# EAGLE library part LPC1850_BGA256 (library microbuilder)
LPC1850/LPC4350 - LBGA256 Warning: This footprint was designed for a specific application, and numerous choices have been made concering the PINMUX to make certain peripherals available at the expense of others. These pin choices may not be appropriate in your own situation (for example, only one set of selection pins is broken out for the EMC rather than all four, although some pins on GPIO6 can be sacrificed to enable another memory device on the EMC using CS2).
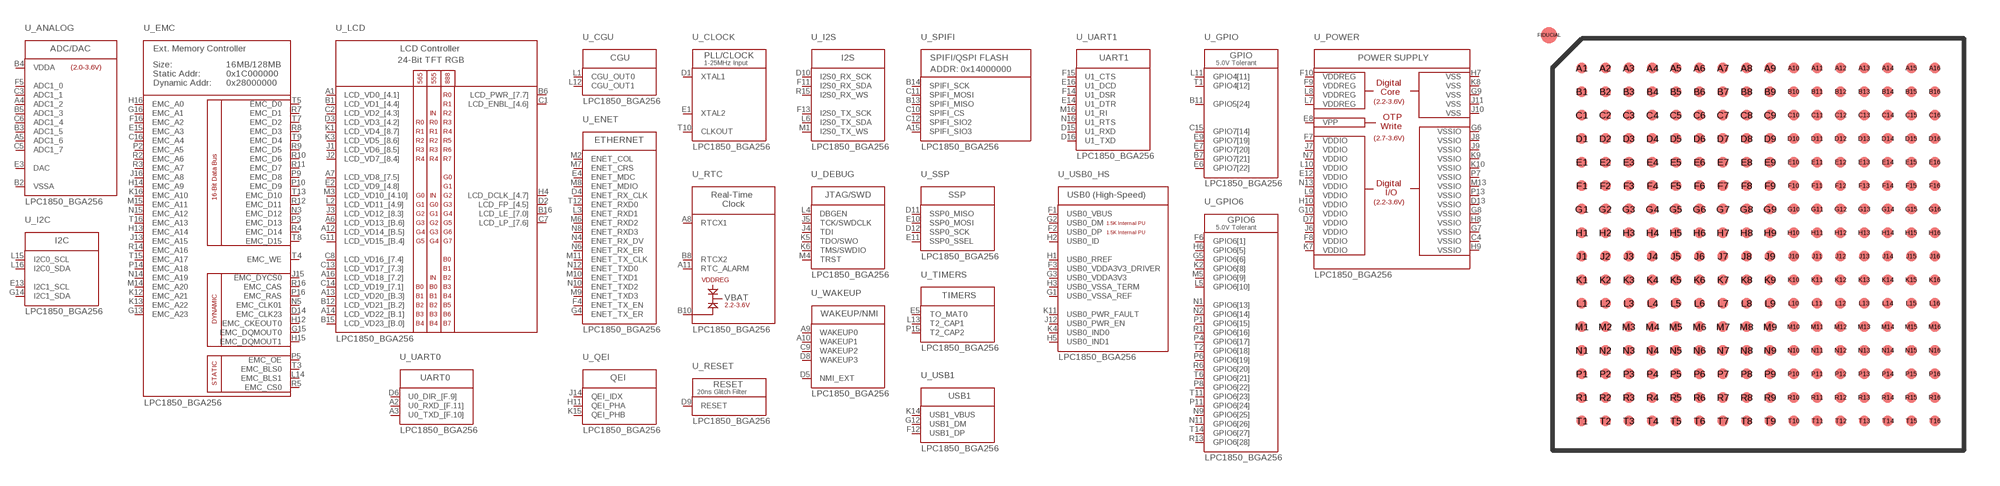
[diagram p147: symbol with the pads of LBGA256_1.0MM; footprint LBGA256_1.0MM]

Designator prefix U; gates _ANALOG=LPC1850_ADC _EMC=LPC1850_EMC _LCD=LPC1850_LCD _RTC=LPC1850_RTC _CGU=LPC1850_CGU _ENET=LPC1850_ETHERNET _CLOCK=LPC1850_CLOCK _I2C=LPC1850_I2C _I2S=LPC1850_I2S _DEBUG=LPC1850_JTAG _WAKEUP=LPC1850_NMI_WAKEUP _QEI=LPC1850_QEI _SPIFI=LPC1850_SPIFI _SSP=LPC1850_SSP _TIMERS=LPC1850_TIMERS _UART0=LPC1850_UART0 _UART1=LPC1850_UART1 _USB0_HS=LPC1850_USB0 _USB1=LPC1850_USB1 _GPIO=LPC1850_GPIO _GPIO6=LPC1850_GPIO6 _POWER=LPC1850_POWER _RESET=LPC1850_RESET

## LPC1850_BGA256  [LBGA256_1.0MM]
A1  _LCD:LCD_VD0_[4.1]
A2  _UART0:U0_RXD_[F.11]
A3  _UART0:U0_TXD_[F.10]
A4  _ANALOG:ADC1_2
A5  _ANALOG:ADC1_6
A6  _LCD:LCD_VD13_[B.6]
A7  _LCD:LCD_VD8_[7.5]
A8  _RTC:RTCX1
A9  _WAKEUP:WAKEUP0
A10  _WAKEUP:WAKEUP1
A11  _RTC:RTC_ALARM
A12  _LCD:LCD_VD14_[B.5]
A13  _LCD:LCD_VD20_[B.3]
A14  _LCD:LCD_VD22_[B.1]
A15  _SPIFI:SPIFI_SIO3
A16  _LCD:LCD_VD18_[7.2]
B1  _LCD:LCD_VD1_[4.4]
B2  _ANALOG:VSSA
B3  _ANALOG:ADC1_5
B4  _ANALOG:VDDA
B5  _ANALOG:ADC1_3
B6  _LCD:LCD_PWR_[7.7]
B7  _GPIO:GPIO7[21]
B8  _RTC:RTCX2
B10  _RTC:VBAT
B11  _GPIO:GPIO5[24]
B12  _LCD:LCD_VD21_[B.2]
B13  _SPIFI:SPIFI_MISO
B14  _SPIFI:SPIFI_SCK
B15  _LCD:LCD_VD23_[B.0]
B16  _LCD:LCD_LE_[7.0]
C1  _LCD:LCD_ENBL_[4.6]
C2  _LCD:LCD_VD2_[4.3]
C3  _ANALOG:ADC1_1
C4  _POWER:VSSIO  pwr
C5  _ANALOG:ADC1_7
C6  _ANALOG:ADC1_4
C7  _LCD:LCD_LP_[7.6]
C8  _LCD:LCD_VD16_[7.4]
C9  _WAKEUP:WAKEUP2
C10  _SPIFI:SPIFI_CS
C11  _SPIFI:SPIFI_MOSI
C12  _SPIFI:SPIFI_SIO2
C13  _LCD:LCD_VD17_[7.3]
C14  _LCD:LCD_VD19_[7.1]
C15  _GPIO:GPIO7[14]
C16  _EMC:EMC_A4
D1  _CLOCK:XTAL1
D2  _LCD:LCD_FP_[4.5]
D3  _LCD:LCD_VD3_[4.2]
D4  _ENET:ENET_RX_CLK
D5  _WAKEUP:NMI_EXT
D6  _UART0:U0_DIR_[F.9]
D7  _POWER:VDDIO  pwr
D8  _WAKEUP:WAKEUP3
D9  _RESET:RESET
D10  _I2S:I2S0_RX_SCK
D11  _SSP:SSP0_MISO
D12  _SSP:SSP0_SCK
D13  _POWER:VSSIO  pwr
D14  _EMC:EMC_CLK23
D15  _UART1:U1_RXD
D16  _UART1:U1_TXD
E1  _CLOCK:XTAL2
E2  _LCD:LCD_VD9_[4.8]
E3  _ANALOG:DAC
E4  _ENET:ENET_MDC
E5  _TIMERS:TO_MAT0
E6  _GPIO:GPIO7[22]
E7  _GPIO:GPIO7[20]
E8  _POWER:VPP  pwr
E9  _GPIO:GPIO7[19]
E10  _SSP:SSP0_MOSI
E11  _SSP:SSP0_SSEL
E12  _POWER:VDDIO  pwr
E13  _I2C:I2C1_SCL
E14  _UART1:U1_DTR
E15  _EMC:EMC_A3
E16  _UART1:U1_DCD
F1  _USB0_HS:USB0_VBUS
F2  _USB0_HS:USB0_DP
F3  _USB0_HS:USB0_VDDA3V3_DRIVER
F4  _ENET:ENET_TX_EN
F5  _ANALOG:ADC1_0
F6  _GPIO6:GPIO6[1]
F7  _POWER:VDDIO  pwr
F8  _POWER:VDDIO  pwr
F9  _POWER:VDDREG  pwr
F10  _POWER:VDDREG  pwr
F11  _I2S:I2S0_RX_SDA
F12  _USB1:USB1_DP
F13  _I2S:I2S0_TX_SCK
F14  _UART1:U1_DSR
F15  _UART1:U1_CTS
F16  _EMC:EMC_A2
G1  _USB0_HS:USB0_VSSA_REF
G2  _USB0_HS:USB0_DM
G3  _USB0_HS:USB0_VDDA3V3
G4  _ENET:ENET_TX_ER
G5  _GPIO6:GPIO6[6]
G6  _POWER:VSSIO  pwr
G7  _POWER:VSSIO  pwr
G8  _POWER:VSSIO  pwr
G9  _POWER:VSS  pwr
G10  _POWER:VDDIO  pwr
G11  _LCD:LCD_VD15_[B.4]
G12  _USB1:USB1_DM
G13  _EMC:EMC_A23
G14  _I2C:I2C1_SDA
G15  _EMC:EMC_DQMOUT0
G16  _EMC:EMC_A1
H1  _USB0_HS:USB0_RREF
H2  _USB0_HS:USB0_ID
H3  _USB0_HS:USB0_VSSA_TERM
H4  _LCD:LCD_DCLK_[4.7]
H5  _USB0_HS:USB0_IND1
H6  _GPIO6:GPIO6[5]
H7  _POWER:VSS  pwr
H8  _POWER:VSSIO  pwr
H9  _POWER:VSSIO  pwr
H10  _POWER:VDDIO  pwr
H11  _QEI:QEI_PHA
H12  _EMC:EMC_CKEOUT0
H13  _EMC:EMC_A14
H14  _EMC:EMC_A9
H15  _EMC:EMC_DQMOUT1
H16  _EMC:EMC_A0
J1  _LCD:LCD_VD6_[8.5]
J2  _LCD:LCD_VD7_[8.4]
J3  _LCD:LCD_VD12_[8.3]
J4  _DEBUG:TDI
J5  _DEBUG:TCK/SWDCLK
J6  _POWER:VDDIO  pwr
J7  _POWER:VDDIO  pwr
J8  _POWER:VSSIO  pwr
J9  _POWER:VSSIO  pwr
J10  _POWER:VSS  pwr
J11  _POWER:VSS  pwr
J12  _USB0_HS:USB0_PWR_EN
J13  _EMC:EMC_A15
J14  _QEI:QEI_IDX
J15  _EMC:EMC_DYCS0
J16  _EMC:EMC_A8
K1  _LCD:LCD_VD4_[8.7]
K2  _GPIO6:GPIO6[8]
K3  _LCD:LCD_VD5_[8.6]
K4  _USB0_HS:USB0_IND0
K5  _DEBUG:TDO/SWO
K6  _DEBUG:TMS/SWDIO
K7  _POWER:VDDIO  pwr
K8  _POWER:VSS  pwr
K9  _POWER:VSSIO  pwr
K10  _POWER:VSSIO  pwr
K11  _USB0_HS:USB0_PWR_FAULT
K12  _EMC:EMC_A21
K13  _EMC:EMC_A22
K14  _USB1:USB1_VBUS
K15  _QEI:QEI_PHB
K16  _EMC:EMC_A10
L1  _CGU:CGU_OUT0
L2  _LCD:LCD_VD11_[4.9]
L3  _ENET:ENET_RXD1
L4  _DEBUG:DBGEN
L5  _GPIO6:GPIO6[10]
L6  _I2S:I2S0_TX_SDA
L7  _POWER:VDDREG  pwr
L8  _POWER:VDDREG  pwr
L9  _POWER:VDDIO  pwr
L10  _POWER:VDDIO  pwr
L11  _GPIO:GPIO4[11]
L12  _CGU:CGU_OUT1
L13  _TIMERS:T2_CAP1
L14  _EMC:EMC_BLS1
L15  _I2C:I2C0_SCL
L16  _I2C:I2C0_SDA
M1  _I2S:I2S0_TX_WS
M2  _ENET:ENET_COL
M3  _LCD:LCD_VD10_[4.10]
M4  _DEBUG:TRST
M5  _GPIO6:GPIO6[9]
M6  _ENET:ENET_RXD2
M7  _ENET:ENET_CRS
M8  _ENET:ENET_MDIO
M9  _ENET:ENET_TXD3
M10  _ENET:ENET_TXD1
M11  _ENET:ENET_TX_CLK
M13  _POWER:VSSIO  pwr
M14  _EMC:EMC_A20
M15  _EMC:EMC_A11
M16  _UART1:U1_RI
N1  _GPIO6:GPIO6[13]
N2  _GPIO6:GPIO6[14]
N3  _EMC:EMC_D12
N4  _ENET:ENET_RX_DV
N5  _EMC:EMC_CLK01
N6  _ENET:ENET_RX_ER
N7  _POWER:VDDIO  pwr
N8  _ENET:ENET_RXD3
N9  _GPIO6:GPIO6[25]
N10  _ENET:ENET_TXD2
N11  _GPIO6:GPIO6[26]
N12  _ENET:ENET_TXD0
N13  _POWER:VDDIO  pwr
N14  _EMC:EMC_A19
N15  _EMC:EMC_A12
N16  _UART1:U1_RTS
P1  _GPIO6:GPIO6[15]
P2  _EMC:EMC_A5
P3  _EMC:EMC_D13
P4  _GPIO6:GPIO6[17]
P5  _EMC:EMC_OE
P6  _GPIO6:GPIO6[19]
P7  _POWER:VSSIO  pwr
P8  _GPIO6:GPIO6[22]
P9  _EMC:EMC_D8
P10  _EMC:EMC_D9
P11  _GPIO6:GPIO6[24]
P13  _POWER:VSSIO  pwr
P14  _EMC:EMC_A18
P15  _TIMERS:T2_CAP2
P16  _EMC:EMC_RAS
R1  _GPIO6:GPIO6[16]
R2  _EMC:EMC_A6
R3  _EMC:EMC_A7
R4  _EMC:EMC_D14
R5  _EMC:EMC_CS0
R6  _GPIO6:GPIO6[20]
R7  _EMC:EMC_D1
R8  _EMC:EMC_D3
R9  _EMC:EMC_D5
R10  _EMC:EMC_D6
R11  _EMC:EMC_D7
R12  _EMC:EMC_D11
R13  _GPIO6:GPIO6[28]
R14  _EMC:EMC_A16
R15  _I2S:I2S0_RX_WS
R16  _EMC:EMC_CAS
T1  _GPIO:GPIO4[12]
T2  _GPIO6:GPIO6[18]
T3  _EMC:EMC_BLS0
T4  _EMC:EMC_WE
T5  _EMC:EMC_D0
T6  _GPIO6:GPIO6[21]
T7  _EMC:EMC_D2
T8  _EMC:EMC_D15
T9  _EMC:EMC_D4
T10  _CLOCK:CLKOUT
T11  _GPIO6:GPIO6[23]
T12  _ENET:ENET_RXD0
T13  _EMC:EMC_D10
T14  _GPIO6:GPIO6[27]
T15  _EMC:EMC_A17
T16  _EMC:EMC_A13

## Footprint LBGA256_1.0MM (pad centres in mm)
LBGA256 - SOT740-2 LBGA256: plastic low profile ball grid array package; 256 balls; body 17 x 17 x 1 mm
smd 0.45 x 0.45: A1 -7.5,7.5; A2 -6.5,7.5; A3 -5.5,7.5; A4 -4.5,7.5; A5 -3.5,7.5; A6 -2.5,7.5; A7 -1.5,7.5; A8 -0.5,7.5; A9 0.5,7.5; A10 1.5,7.5; A11 2.5,7.5; A12 3.5,7.5; A13 4.5,7.5; A14 5.5,7.5; A15 6.5,7.5; A16 7.5,7.5; B1 -7.5,6.5; B2 -6.5,6.5; B3 -5.5,6.5; B4 -4.5,6.5; B5 -3.5,6.5; B6 -2.5,6.5; B7 -1.5,6.5; B8 -0.5,6.5; B9 0.5,6.5; B10 1.5,6.5; B11 2.5,6.5; B12 3.5,6.5; B13 4.5,6.5; B14 5.5,6.5; B15 6.5,6.5; B16 7.5,6.5; C1 -7.5,5.5; C2 -6.5,5.5; C3 -5.5,5.5; C4 -4.5,5.5; C5 -3.5,5.5; C6 -2.5,5.5; C7 -1.5,5.5; C8 -0.5,5.5; C9 0.5,5.5; C10 1.5,5.5; C11 2.5,5.5; C12 3.5,5.5; C13 4.5,5.5; C14 5.5,5.5; C15 6.5,5.5; C16 7.5,5.5; D1 -7.5,4.5; D2 -6.5,4.5; D3 -5.5,4.5; D4 -4.5,4.5; D5 -3.5,4.5; D6 -2.5,4.5; D7 -1.5,4.5; D8 -0.5,4.5; D9 0.5,4.5; D10 1.5,4.5; D11 2.5,4.5; D12 3.5,4.5; D13 4.5,4.5; D14 5.5,4.5; D15 6.5,4.5; D16 7.5,4.5; E1 -7.5,3.5; E2 -6.5,3.5; E3 -5.5,3.5; E4 -4.5,3.5; E5 -3.5,3.5; E6 -2.5,3.5; E7 -1.5,3.5; E8 -0.5,3.5; E9 0.5,3.5; E10 1.5,3.5; E11 2.5,3.5; E12 3.5,3.5; E13 4.5,3.5; E14 5.5,3.5; E15 6.5,3.5; E16 7.5,3.5; F1 -7.5,2.5; F2 -6.5,2.5; F3 -5.5,2.5; F4 -4.5,2.5; F5 -3.5,2.5; F6 -2.5,2.5; F7 -1.5,2.5; F8 -0.5,2.5; F9 0.5,2.5; F10 1.5,2.5; F11 2.5,2.5; F12 3.5,2.5; F13 4.5,2.5; F14 5.5,2.5; F15 6.5,2.5; F16 7.5,2.5; G1 -7.5,1.5; G2 -6.5,1.5; G3 -5.5,1.5; G4 -4.5,1.5; G5 -3.5,1.5; G6 -2.5,1.5; G7 -1.5,1.5; G8 -0.5,1.5; G9 0.5,1.5; G10 1.5,1.5; G11 2.5,1.5; G12 3.5,1.5; G13 4.5,1.5; G14 5.5,1.5; G15 6.5,1.5; G16 7.5,1.5; H1 -7.5,0.5; H2 -6.5,0.5; H3 -5.5,0.5; H4 -4.5,0.5; H5 -3.5,0.5; H6 -2.5,0.5; H7 -1.5,0.5; H8 -0.5,0.5; H9 0.5,0.5; H10 1.5,0.5; H11 2.5,0.5; H12 3.5,0.5; H13 4.5,0.5; H14 5.5,0.5; H15 6.5,0.5; H16 7.5,0.5; J1 -7.5,-0.5; J2 -6.5,-0.5; J3 -5.5,-0.5; J4 -4.5,-0.5; J5 -3.5,-0.5; J6 -2.5,-0.5; J7 -1.5,-0.5; J8 -0.5,-0.5; J9 0.5,-0.5; J10 1.5,-0.5; J11 2.5,-0.5; J12 3.5,-0.5; J13 4.5,-0.5; J14 5.5,-0.5; J15 6.5,-0.5; J16 7.5,-0.5; K1 -7.5,-1.5; K2 -6.5,-1.5; K3 -5.5,-1.5; K4 -4.5,-1.5; K5 -3.5,-1.5; K6 -2.5,-1.5; K7 -1.5,-1.5; K8 -0.5,-1.5; K9 0.5,-1.5; K10 1.5,-1.5; K11 2.5,-1.5; K12 3.5,-1.5; K13 4.5,-1.5; K14 5.5,-1.5; K15 6.5,-1.5; K16 7.5,-1.5; L1 -7.5,-2.5; L2 -6.5,-2.5; L3 -5.5,-2.5; L4 -4.5,-2.5; L5 -3.5,-2.5; L6 -2.5,-2.5; L7 -1.5,-2.5; L8 -0.5,-2.5; L9 0.5,-2.5; L10 1.5,-2.5; L11 2.5,-2.5; L12 3.5,-2.5; L13 4.5,-2.5; L14 5.5,-2.5; L15 6.5,-2.5; L16 7.5,-2.5; M1 -7.5,-3.5; M2 -6.5,-3.5; M3 -5.5,-3.5; M4 -4.5,-3.5; M5 -3.5,-3.5; M6 -2.5,-3.5; M7 -1.5,-3.5; M8 -0.5,-3.5; M9 0.5,-3.5; M10 1.5,-3.5; M11 2.5,-3.5; M12 3.5,-3.5; M13 4.5,-3.5; M14 5.5,-3.5; M15 6.5,-3.5; M16 7.5,-3.5; N1 -7.5,-4.5; N2 -6.5,-4.5; N3 -5.5,-4.5; N4 -4.5,-4.5; N5 -3.5,-4.5; N6 -2.5,-4.5; N7 -1.5,-4.5; N8 -0.5,-4.5; N9 0.5,-4.5; N10 1.5,-4.5; N11 2.5,-4.5; N12 3.5,-4.5; N13 4.5,-4.5; N14 5.5,-4.5; N15 6.5,-4.5; N16 7.5,-4.5; P1 -7.5,-5.5; P2 -6.5,-5.5; P3 -5.5,-5.5; P4 -4.5,-5.5; P5 -3.5,-5.5; P6 -2.5,-5.5; P7 -1.5,-5.5; P8 -0.5,-5.5; P9 0.5,-5.5; P10 1.5,-5.5; P11 2.5,-5.5; P12 3.5,-5.5; P13 4.5,-5.5; P14 5.5,-5.5; P15 6.5,-5.5; P16 7.5,-5.5; R1 -7.5,-6.5; R2 -6.5,-6.5; R3 -5.5,-6.5; R4 -4.5,-6.5; R5 -3.5,-6.5; R6 -2.5,-6.5; R7 -1.5,-6.5; R8 -0.5,-6.5; R9 0.5,-6.5; R10 1.5,-6.5; R11 2.5,-6.5; R12 3.5,-6.5; R13 4.5,-6.5; R14 5.5,-6.5; R15 6.5,-6.5; R16 7.5,-6.5; T1 -7.5,-7.5; T2 -6.5,-7.5; T3 -5.5,-7.5; T4 -4.5,-7.5; T5 -3.5,-7.5; T6 -2.5,-7.5; T7 -1.5,-7.5; T8 -0.5,-7.5; T9 0.5,-7.5; T10 1.5,-7.5; T11 2.5,-7.5; T12 3.5,-7.5; T13 4.5,-7.5; T14 5.5,-7.5; T15 6.5,-7.5; T16 7.5,-7.5
smd 0.7 x 0.7: FIDUCIAL -8.89,8.89